# Altium schematic symbol library TPS7A5701RTER.SchLib: 2 symbols
Pins are listed as number, name and electrical type; pins without a type are passive.

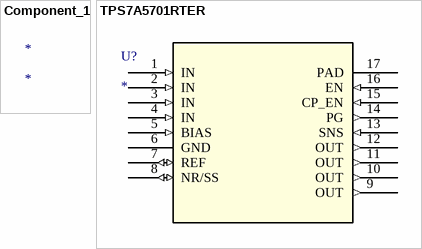
[diagram p0: symbols Component_1 to TPS7A5701RTER]

## Component_1
designator *

## TPS7A5701RTER
designator U?
No Description Available; Mfr_Name: Texas Instruments; RefDes: RefDes; Type: Type
footprint WQFN16_RTE_TEX
pins: 1 IN (in), 2 IN (in), 3 IN (in), 4 IN (in), 5 BIAS (in), 6 GND (power), 7 REF (io), 8 NR/SS (io), 9 OUT (out), 10 OUT (out), 11 OUT (out), 12 OUT (out), 13 SNS (in), 14 PG (out), 15 CP_EN (in), 16 EN (in), 17 PAD (power)